# Altium schematic symbol library VLMY30K2M1-GS08.SchLib: 1 symbol
Pins are listed as number, name and electrical type; pins without a type are passive.

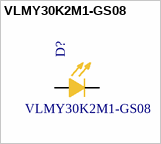
[diagram p0: symbol VLMY30K2M1-GS08]

## VLMY30K2M1-GS08
designator D?
Led Yellow 2mA 1.8V 12mcd 40mW; Manufacturer_Name: Vishay; Geometry.Height: 1.85mm; Mouser Part Number: 78-VLMY30K2M1; Mouser Price/Stock: https://www.mouser.co.uk/ProductDetail/Vishay-Semiconductors/VLMY30K2M1-GS08?qs=F8HfwHd0zjeJIKDcsfUEaw%3D%3D; Manufacturer_Part_Number: VLMY30K2M1-GS08; Datasheet Link: https://www.arrow.com/en/products/vlmy30k2m1-gs08/vishay
footprint VLMY30K2M1GS08
pins: 1 C, 2 A